# EAGLE library part LTC2942 (library energy-harvesting-pmic)
Battery Gas Gauge with Temperature, Voltage Measurement The LTC2942 measures battery charge state, battery voltage and chip temperature in handheld PC and portable product applications. Its operating range is perfectly suited for single-cell Li-Ion batteries. A precision coulomb counter integrates current through a sense resistor between the battery’s positive terminal and the load or charger. Battery voltage and on-chip temperature are measured with an internal 14-bit No Latency ΔΣ™ ADC. The three measured quantities (charge, voltage and temperature) are stored in internal registers accessible via the on-board SMBus/I2C interface. Source: http://www.analog.com/en/products/power-management/battery-management/coulomb-counter/ltc2942.html
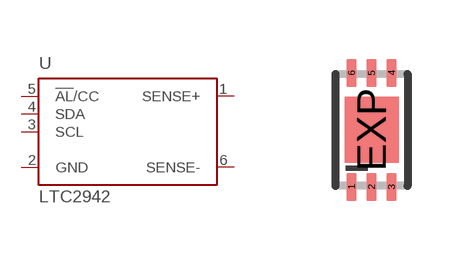
[diagram p2: symbol with the pads of DFN6-2X3; footprint DFN6-2X3]

Designator prefix U

## LTC2942DCB  [DFN6-2X3]
1  SENSE+  in
2  GND  pwr
3  SCL
4  SDA
5  !AL!/CC  out
6  SENSE-  in

## Footprint DFN6-2X3 (pad centres in mm)
DCB Package 6-Lead Plastic DFN (2mm × 3mm) Source: http://www.linear.com/pc/downloadDocument.do?navId=H0,C1,C1003,C1042,C1032,C1063,P26952,D16357
smd 0.25 x 0.7: 1 -0.5,-1.425; 2 0,-1.425; 3 0.5,-1.425; 4 0.5,1.425; 5 0,1.425; 6 -0.5,1.425
smd 1.35 x 1.65: EXP 0,0